# Altium footprint library 691 253 500 0xx.PcbLib: 2 footprints
Each footprint in its own frame and in the unit in brackets; x right, y up, seen from the top. Pads: shape width x height; smd on the part's side, far side on the other; paste and mask are expansions set on the pad; w line width, h text height; cw(c..) or ccw(c..) is an arc to the next point about the centre after c.
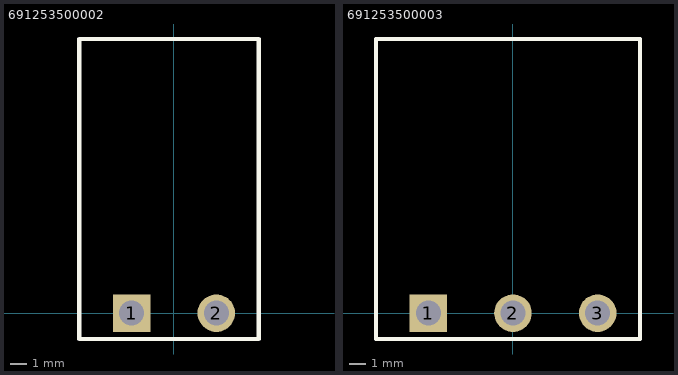
[diagram p0: the footprints below, top view; thin cyan lines are the x and y axes]

## 691253500002 [mm] "Serie 2535 - 5.08 mm _ 2 pins"
height 11.2
pads (2):
  rect 2.25x2.25 hole 1.5: 1(-2.54,0)
  round 2.25 hole 1.5: 2(2.54,0)
Top Overlay:
  lines w0.254: -5.68,-1.55 -5.68,16.45 5.08,16.45 5.08,-1.55 -5.68,-1.55
3D body: height 11.35, standoff -3.85, extent -5.7,-1.5 5.06,16.5

## 691253500003 [mm] "Serie 2535 - 5.08 mm _ 3 pins"
height 11.2
pads (3):
  rect 2.25x2.25 hole 1.5: 1(-5.08,0)
  round 2.25 hole 1.5: 2(0,0) 3(5.08,0)
Top Overlay:
  lines w0.254: -8.22,-1.55 7.62,-1.55 7.62,16.45 -8.22,16.45 -8.22,-1.55
3D body: height 11.35, standoff -3.85, extent -8.2,-1.5 7.64,16.5